# Altium schematic symbol library D_Schottky_Dual_SOT23-5.Schlib: 1 symbol
Pins are listed as number, name and electrical type; pins without a type are passive.

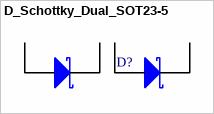
[diagram p0: symbol D_Schottky_Dual_SOT23-5]

## D_Schottky_Dual_SOT23-5
designator D?
Diode, Schottky
signal-integrity model D Schottky
pins: 1 A1, 3 A2, 4 K2, 5 K1
1 alternate drawing of the same symbol